# Altium footprint library PCB - CAPACITOR - ELECTROLYTIC - B43548A6686M060.PCBLIB: 1 footprints
Each footprint in its own frame and in the unit in brackets; x right, y up, seen from the top. Pads: shape width x height; smd on the part's side, far side on the other; paste and mask are expansions set on the pad; w line width, h text height; cw(c..) or ccw(c..) is an arc to the next point about the centre after c.
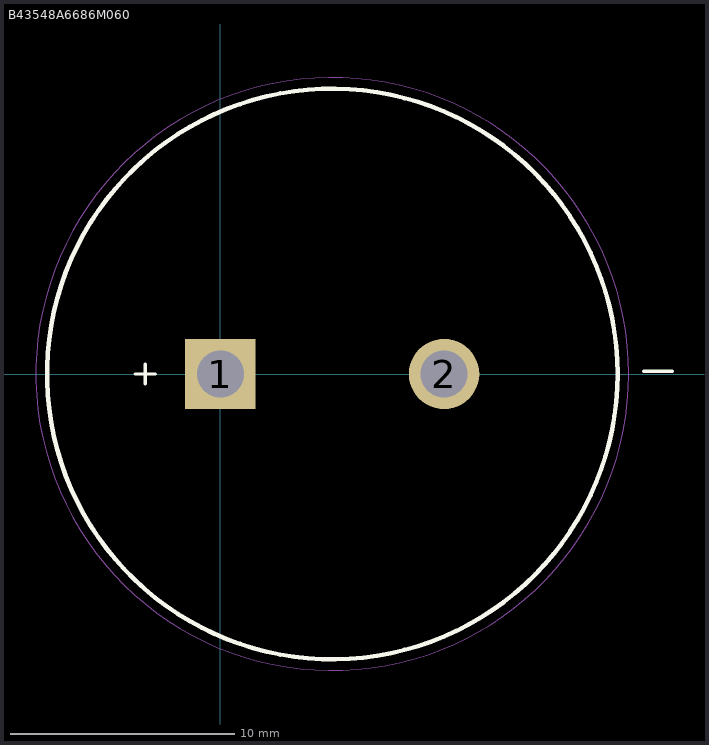
[diagram p0: the footprint, top view; thin cyan lines are the x and y axes]

## B43548A6686M060 [mm]
pads (2):
  rect 3.15x3.15 hole 2.1: 1(0,0)
  round 3.15 hole 2.1: 2(10,0)
Top Overlay:
  circle w0.2: c5,0 r12.75
  lines w0.153: -3.81,0 -2.921,0 ; -3.365,-0.445 -3.365,0.445 ; 18.923,0.127 20.193,0.127
Top Value (Mech13):
  circle w0.1: c5,0 r12.75
Mechanical 15:
  circle w0.05: c5,0 r13.25
3D body "B43548A6686M060.stp": height 28.17, standoff -3.13, extent -12.409,-17.409 22.409,17.409